# Altium schematic symbol library LM2576-D2PAK-5.SchLib: 1 symbol
Pins are listed as number, name and electrical type; pins without a type are passive.

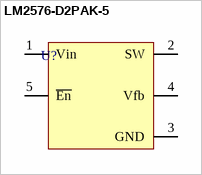
[diagram p0: symbol LM2576-D2PAK-5]

## LM2576-D2PAK-5
designator U?  (value not drawn)
pins: 1 Vin, 2 SW, 3 GND, 4 Vfb, 5 ~{En}